# EAGLE library part MAX5395LATA+T (library max5395)
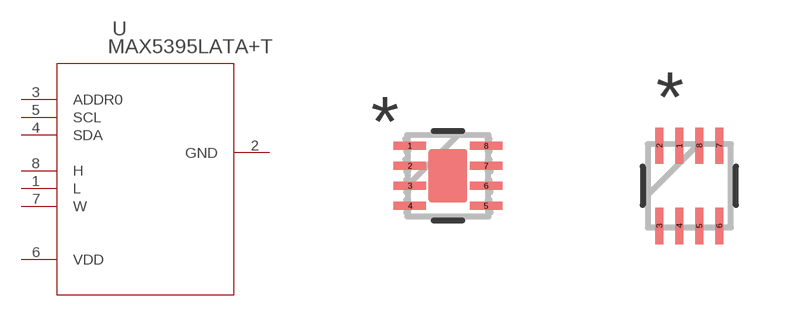
[diagram p0: symbol with the pads of 21-0168-M_90-0065_T822_2-8L; footprints 21-0168-M_90-0065_T822_2-8L, 21-0168-M_90-0065_T822_2-8L-M]

Designator prefix U

## MAX5395LATA+T (MANUFACTURER_PART_NUMBER: MAX5395LATA+T; VENDOR: Maxim Integrated Products)  [21-0168-M_90-0065_T822_2-8L]
1  L  pas
2  GND  pas
3  ADDR0  in
4  SDA  in
5  SCL  in
6  VDD  pwr
7  W  pas
8  H  pas

## MAX5395LATA+T21-0168-M_90-0065_T822_2-8L-M (MANUFACTURER_PART_NUMBER: MAX5395LATA+T; VENDOR: Maxim Integrated Products)  [21-0168-M_90-0065_T822_2-8L-M]
Pads as for 21-0168-M_90-0065_T822_2-8L

## MAX5395LATA+T21-0168-M_90-0065_T822_2-8L-L (MANUFACTURER_PART_NUMBER: MAX5395LATA+T; VENDOR: Maxim Integrated Products)  [21-0168-M_90-0065_T822_2-8L-L]
Pads as for 21-0168-M_90-0065_T822_2-8L

## Footprint 21-0168-M_90-0065_T822_2-8L (pad centres in mm)
smd 0.813 x 0.203: 1 -0.953,0.75; 2 -0.953,0.25; 3 -0.953,-0.25; 4 -0.953,-0.75; 5 0.953,-0.75; 6 0.953,-0.25; 7 0.953,0.25; 8 0.953,0.75

## Footprint 21-0168-M_90-0065_T822_2-8L-M (pad centres in mm)
smd 0.198 x 0.906: 1 -0.25,1.003; 2 -0.75,1.003; 3 -0.75,-1.003; 4 -0.25,-1.003; 5 0.25,-1.003; 6 0.75,-1.003; 7 0.75,1.003; 8 0.25,1.003

## Footprint 21-0168-M_90-0065_T822_2-8L-L (pad centres in mm)
smd 0.198 x 0.703: 1 -0.25,0.902; 2 -0.75,0.902; 3 -0.75,-0.902; 4 -0.25,-0.902; 5 0.25,-0.902; 6 0.75,-0.902; 7 0.75,0.902; 8 0.25,0.902